# EAGLE library part ADA4896-2 (library EIT_Recorder)
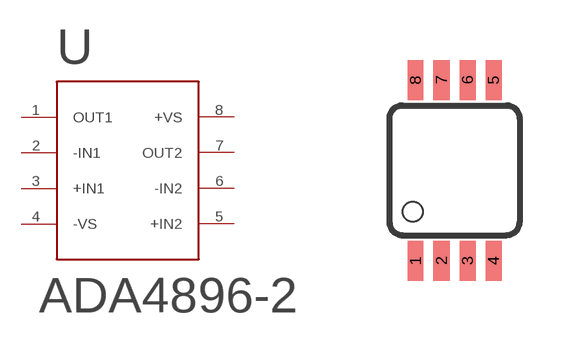
[diagram p2: symbol with the pads of MSOP8_CUSTOM; footprint MSOP8_CUSTOM]

Designator prefix U

## ADA4896-2  [MSOP8_CUSTOM]
1  OUT1  out
2  -IN1  in
3  +IN1  in
4  -VS  pwr
5  +IN2  in
6  -IN2  in
7  OUT2  out
8  +VS  pwr

## Footprint MSOP8_CUSTOM (pad centres in mm)
8-Lead micro SO (RM-8) Source: http://www.analog.com/UploadedFiles/Data_Sheets/703465986AD8611_2_0.pdf
smd 0.4 x 1: 1 -0.976,-2.263; 2 -0.326,-2.263; 3 0.324,-2.263; 4 0.974,-2.263; 5 0.974,2.262; 6 0.324,2.262; 7 -0.326,2.262; 8 -0.976,2.262